# EAGLE library part MYRBP500080W21RD (library MYRBP500080W21RD)
Non-Isolated PoL Module DC DC Converter 1 Output 5V 500mA 0.65V - 6V Input Source: Datasheet <https://www.murata.com/products/productdata/8809985572894/MYRBP-B-W.pdf?1604930424000>
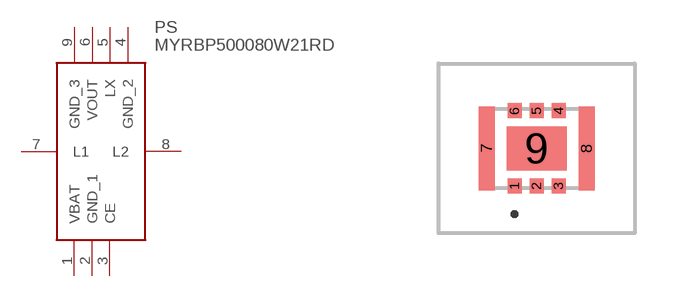
[diagram p0: symbol with the pads of MYRBP500080W21RD; footprint MYRBP500080W21RD]

Designator prefix PS

## MYRBP500080W21RD (Arrow_Part_Number: MYRBP500080W21RD; Arrow_Price-Stock: https://www.arrow.com/en/products/myrbp500080w21rd/murata-power-solutions?region=nac; Description: Non-Isolated PoL Module DC DC Converter 1 Output 5V 500mA 0.65V - 6V Input; Height: 1.04mm; Manufacturer_Name: Murata Electronics; Manufacturer_Part_Number: MYRBP500080W21RD; Mouser_Part_Number: 81-MYRBP500080W21RD; Mouser_Price-Stock: https://www.mouser.co.uk/ProductDetail/Murata-Electronics/MYRBP500080W21RD?qs=hd1VzrDQEGh%2Fg85ihM7iTw%3D%3D)  [MYRBP500080W21RD]
1  VBAT
2  GND_1
3  CE
4  GND_2
5  LX
6  VOUT
7  L1
8  L2
9  GND_3

## Footprint MYRBP500080W21RD (pad centres in mm)
MYRBP500080W21RD-3
smd 0.35 x 0.375: 1 -0.55,-0.938; 2 0,-0.938; 3 0.55,-0.938; 4 0.55,0.938; 5 0,0.938; 6 -0.55,0.938
smd 0.4 x 2.1: 7 -1.25,0; 8 1.25,0
smd 1.5 x 1.1: 9 0,0